# Altium footprint library MainLibrary.PcbLib: 35 footprints (part 3 of 3)
Each footprint in its own frame and in the unit in brackets; x right, y up, seen from the top. Pads: shape width x height; smd on the part's side, far side on the other; paste and mask are expansions set on the pad; w line width, h text height; cw(c..) or ccw(c..) is an arc to the next point about the centre after c.
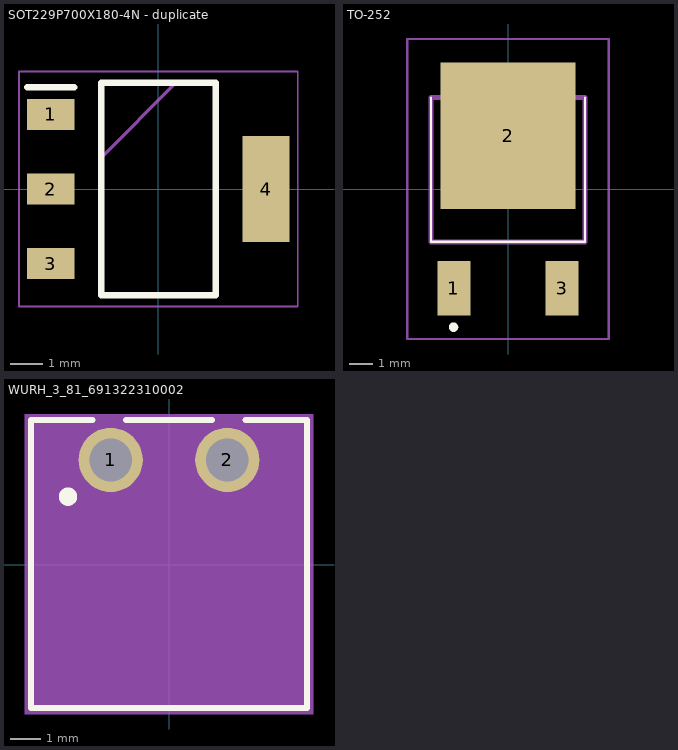
[diagram p2: the footprints below, top view; thin cyan lines are the x and y axes]

## SOT229P700X180-4N - duplicate [mm]
pads (4):
  rect 1.45x0.95 smd: 1(-3.3,2.29) 2(-3.3,0) 3(-3.3,-2.29)
  rect 1.45x3.25 smd: 4(3.3,0)
Top Overlay:
  lines w0.2: -4.025,3.115 -2.575,3.115 ; -1.752,-3.252 -1.752,3.252 1.752,3.252 1.752,-3.252 -1.752,-3.252
Mechanical 13:
  lines w0.1: -1.752,0.962 0.538,3.252 ; -1.752,-3.252 -1.752,3.252 1.752,3.252 1.752,-3.252 -1.752,-3.252
Mechanical 15:
  lines w0.05: -4.275,-3.605 -4.275,3.605 4.275,3.605 4.275,-3.605 -4.275,-3.605
3D body "AMS1117-3.3.stp": height 1.8, standoff 0, extent -3.355,-3.15 3.355,3.15

## TO-252 [mil]
pads (3):
  rect 55x90 smd: 1(-90,-165) 3(90,-165)
  rect 224.02x243.31 smd: 2(0,88.35)
Top Overlay:
  lines w3.94: -127.95,152.2 -127.95,-87.95 127.95,-87.95 127.95,152.2
  lines w7.87: -94.49,-229.69 ccw(c-90.55,-229.69) -86.61,-229.69 ccw(c-90.55,-229.69) -94.49,-229.69
Mechanical 13:
  lines w7.87: -127.95,-87.95 127.95,-87.95 127.95,152.2 -127.95,152.2 -127.95,-87.95
Mechanical 15:
  lines w3.94: -167.32,-249.37 167.32,-249.37 167.32,249.37 -167.32,249.37 -167.32,-249.37
3D body "SUD50P04-08-GE3.stp": height 93.31, standoff 2.48, extent -122.64,-195.47 127.36,174.61

## WURH_3_81_691322310002 [mm]
pads (2):
  round 2.1 hole 1.4: 1(-1.905,3.429) 2(1.905,3.429)
Top Overlay:
  circle w0.4: c-3.3,2.229 r0.1
  lines w0.2: -2.5,4.729 -4.505,4.729 -4.505,-4.671 4.505,-4.671 4.505,4.729 2.5,4.729 ; -1.4,4.729 1.4,4.729
Mechanical 13:
  lines w0.1: -4.405,-4.571 4.405,-4.571 4.405,4.629 -4.405,4.629 -4.405,-4.571
Mechanical 15:
  region: 4.705,-4.871 -4.705,-4.871 -4.705,4.929 4.705,4.929
3D body "691322310002.stp": height 7.2, standoff -3.5, extent -4.405,-4.473 4.405,4.727